# EAGLE library part HT16K33 (library jason_eagle6)
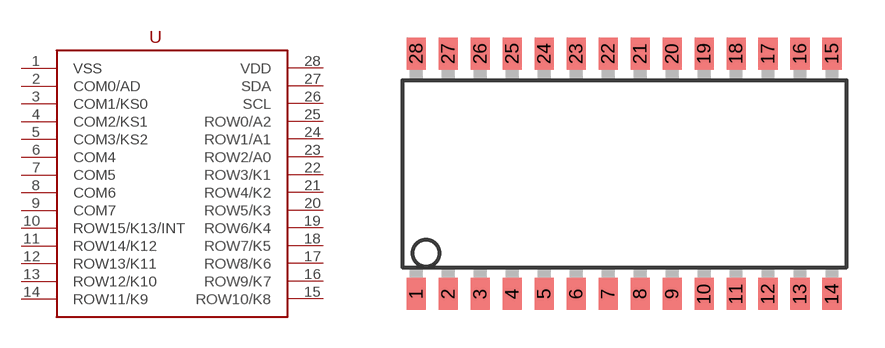
[diagram p14: symbol with the pads of SO28W; footprint SO28W]

Designator prefix -

## HT16K3328  [SO28W]
1  VSS
2  COM0/AD
3  COM1/KS0
4  COM2/KS1
5  COM3/KS2
6  COM4
7  COM5
8  COM6
9  COM7
10  ROW15/K13/INT
11  ROW14/K12
12  ROW13/K11
13  ROW12/K10
14  ROW11/K9
15  ROW10/K8
16  ROW9/K7
17  ROW8/K6
18  ROW7/K5
19  ROW6/K4
20  ROW5/K3
21  ROW4/K2
22  ROW3/K1
23  ROW2/A0
24  ROW1/A1
25  ROW0/A2
26  SCL
27  SDA
28  VDD

## Footprint SO28W (pad centres in mm)
28-Lead Plastic Small Outline (SO) Wide, 300 mil Body (SOIC) Source: http://ww1.microchip.com/downloads/en/devicedoc/39632c.pdf
smd 0.762 x 1.27: 1 -7.62,-4.78; 2 -6.35,-4.78; 3 -5.08,-4.78; 4 -3.81,-4.78; 5 -2.54,-4.78; 6 -1.27,-4.78; 7 0,-4.78; 8 1.27,-4.78; 9 2.54,-4.78; 10 3.81,-4.78; 11 5.08,-4.78; 12 6.35,-4.78; 13 7.62,-4.78; 14 8.89,-4.78; 15 8.89,4.78; 16 7.62,4.78; 17 6.35,4.78; 18 5.08,4.78; 19 3.81,4.78; 20 2.54,4.78; 21 1.27,4.78; 22 0,4.78; 23 -1.27,4.78; 24 -2.54,4.78; 25 -3.81,4.78; 26 -5.08,4.78; 27 -6.35,4.78; 28 -7.62,4.78